# EAGLE library part L6219 (library h-bridge)
Stepper motor driver
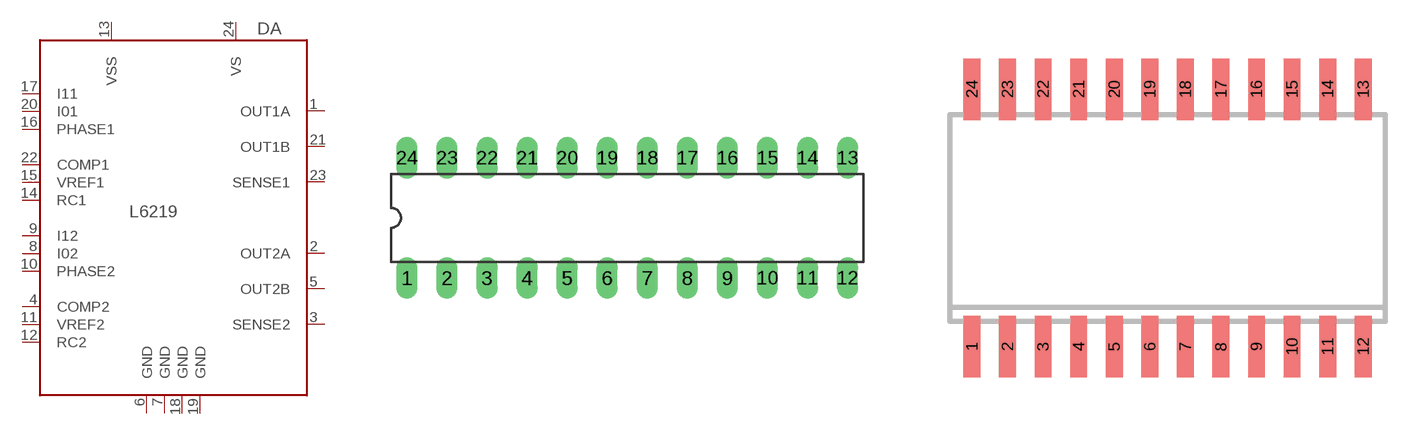
[diagram p4: symbol with the pads of DIL24-3; footprints DIL24-3, SO24W]

Designator prefix DA

## L6219  [DIL24-3]
1  OUT1A  out
2  OUT2A  out
3  SENSE2  out
4  COMP2  in
5  OUT2B  out
6  GND  pwr
7  GND  pwr
8  I02  in
9  I12  in
10  PHASE2  in
11  VREF2  in
12  RC2
13  VSS  pwr
14  RC1
15  VREF1  in
16  PHASE1  in
17  I11  in
18  GND  pwr
19  GND  pwr
20  I01  in
21  OUT1B  out
22  COMP1  in
23  SENSE1  out
24  VS  pwr

## L6219DS  [SO24W]
Pads as for DIL24-3

## Footprint DIL24-3 (pad centres in mm)
Dual In Line Package 0.3 inch
drill 0.813 long: 1 -13.97,-3.81; 2 -11.43,-3.81; 3 -8.89,-3.81; 4 -6.35,-3.81; 5 -3.81,-3.81; 6 -1.27,-3.81; 7 1.27,-3.81; 8 3.81,-3.81; 9 6.35,-3.81; 10 8.89,-3.81; 11 11.43,-3.81; 12 13.97,-3.81; 13 13.97,3.81; 14 11.43,3.81; 15 8.89,3.81; 16 6.35,3.81; 17 3.81,3.81; 18 1.27,3.81; 19 -1.27,3.81; 20 -3.81,3.81; 21 -6.35,3.81; 22 -8.89,3.81; 23 -11.43,3.81; 24 -13.97,3.81

## Footprint SO24W (pad centres in mm)
SMALL OUTLINE INTEGRATED CIRCUIT wide body 7.5 mm/JEDEC MO-119AA
smd 0.6 x 2.2: 1 -6.985,-4.6; 2 -5.715,-4.6; 3 -4.445,-4.6; 4 -3.175,-4.6; 5 -1.905,-4.6; 6 -0.635,-4.6; 7 0.635,-4.6; 8 1.905,-4.6; 9 3.175,-4.6; 10 4.445,-4.6; 11 5.715,-4.6; 12 6.985,-4.6; 13 6.985,4.6; 14 5.715,4.6; 15 4.445,4.6; 16 3.175,4.6; 17 1.905,4.6; 18 0.635,4.6; 19 -0.635,4.6; 20 -1.905,4.6; 21 -3.175,4.6; 22 -4.445,4.6; 23 -5.715,4.6; 24 -6.985,4.6